# Altium footprint library R0603_2021-08-18.PcbLib: 1 footprints
Each footprint in its own frame and in the unit in brackets; x right, y up, seen from the top. Pads: shape width x height; smd on the part's side, far side on the other; paste and mask are expansions set on the pad; w line width, h text height; cw(c..) or ccw(c..) is an arc to the next point about the centre after c.
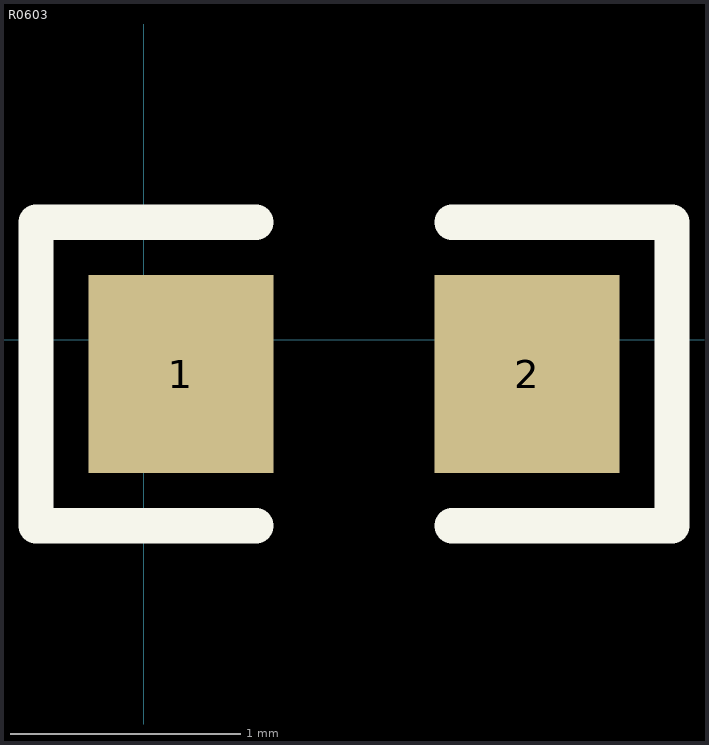
[diagram p0: the footprint, top view; thin cyan lines are the x and y axes]

## R0603 [mm]
pads (2):
  rect 0.806x0.864 smd: 1(0.162,-0.149) 2(1.668,-0.149)
Top Overlay:
  lines w0.152: 0.489,-0.81 -0.47,-0.81 -0.47,0.512 0.489,0.512 ; 1.341,-0.81 2.3,-0.81 2.3,0.512 1.341,0.512
Top Paste:
  region: 0.56,0.251 0.56,0.023 0.18,0.023 0.18,-0.307 0.56,-0.307 0.56,-0.549 0.51,-0.599 -0.28,-0.599 -0.33,-0.549 -0.33,0.251 -0.28,0.301 0.51,0.301
  region: 2.11,0.301 1.31,0.301 1.26,0.251 1.26,0.023 1.63,0.023 1.63,-0.307 1.26,-0.307 1.26,-0.549 1.31,-0.599 2.11,-0.599 2.16,-0.549 2.16,0.251